# EAGLE library part EXP1.2-A (library usb-fpga-1)
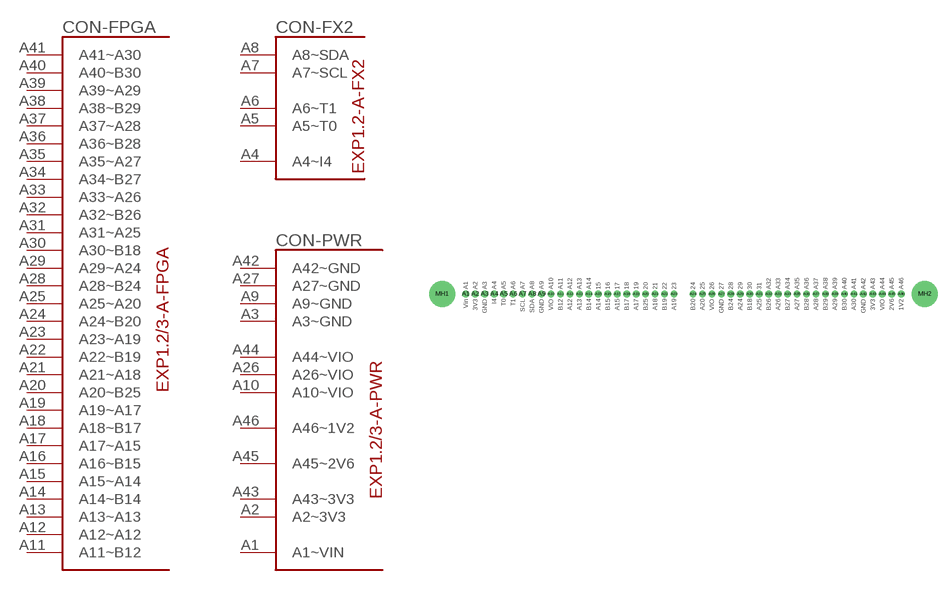
[diagram p7: symbol with the pads of EXP1.2-A; footprint EXP1.2-A]

Designator prefix CON; gates -FPGA=EXP1.2-A-FPGA -FX2=EXP1.2-A-FX2 -PWR=EXP1.2-A-PWR

## EXP1.2-A  [EXP1.2-A]
A1  -PWR:A1~VIN
A2  -PWR:A2~3V3
A3  -PWR:A3~GND
A4  -FX2:A4~I4
A5  -FX2:A5~T0
A6  -FX2:A6~T1
A7  -FX2:A7~SCL
A8  -FX2:A8~SDA
A9  -PWR:A9~GND
A10  -PWR:A10~VIO
A11  -FPGA:A11~B12
A12  -FPGA:A12~A12
A13  -FPGA:A13~A13
A14  -FPGA:A14~B14
A15  -FPGA:A15~A14
A16  -FPGA:A16~B15
A17  -FPGA:A17~A15
A18  -FPGA:A18~B17
A19  -FPGA:A19~A17
A20  -FPGA:A20~B25
A21  -FPGA:A21~A18
A22  -FPGA:A22~B19
A23  -FPGA:A23~A19
A24  -FPGA:A24~B20
A25  -FPGA:A25~A20
A26  -PWR:A26~VIO
A27  -PWR:A27~GND
A28  -FPGA:A28~B24
A29  -FPGA:A29~A24
A30  -FPGA:A30~B18
A31  -FPGA:A31~A25
A32  -FPGA:A32~B26
A33  -FPGA:A33~A26
A34  -FPGA:A34~B27
A35  -FPGA:A35~A27
A36  -FPGA:A36~B28
A37  -FPGA:A37~A28
A38  -FPGA:A38~B29
A39  -FPGA:A39~A29
A40  -FPGA:A40~B30
A41  -FPGA:A41~A30
A42  -PWR:A42~GND
A43  -PWR:A43~3V3
A44  -PWR:A44~VIO
A45  -PWR:A45~2V6
A46  -PWR:A46~1V2

## Footprint EXP1.2-A (pad centres in mm)
drill 1.2 round: A1 0,0; A2 2.54,0; A3 5.08,0; A4 7.62,0; A5 10.16,0; A6 12.7,0; A7 15.24,0; A8 17.78,0; A9 20.32,0; A10 22.86,0; A11 25.4,0; A12 27.94,0; A13 30.48,0; A14 33.02,0; A15 35.56,0; A16 38.1,0; A17 40.64,0; A18 43.18,0; A19 45.72,0; A20 48.26,0; A21 50.8,0; A22 53.34,0; A23 55.88,0; A24 60.96,0; A25 63.5,0; A26 66.04,0; A27 68.58,0; A28 71.12,0; A29 73.66,0; A30 76.2,0; A31 78.74,0; A32 81.28,0; A33 83.82,0; A34 86.36,0; A35 88.9,0; A36 91.44,0; A37 93.98,0; A38 96.52,0; A39 99.06,0; A40 101.6,0; A41 104.14,0; A42 106.68,0; A43 109.22,0; A44 111.76,0; A45 114.3,0; A46 116.84,0
drill 3.2 pad 7 round: MH1 -6.35,0; MH2 123.19,0